# Altium schematic symbol library IPB011N04N G.SchLib: 1 symbol
Pins are listed as number, name and electrical type; pins without a type are passive.

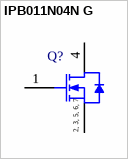
[diagram p0: symbol IPB011N04N G]

## IPB011N04N G
designator Q?
N-Channel OptiMOS 3 Power-Transistor, 40 V VDS, 180 A ID, -55 to 175 degC, PG-TO-263-7-2, Reel, Green; Manufacturer: Infineon; PartNumber: IPB011N04N G; Green: TRUE; ID (max): 180 A; IDpuls (max): 1260 A; Polarity: N; Ptot (max): 250 W; QG: 188 nC; RDS (on) (max): 1.1 mOhm; Rth: 0.6 K/W; RthJA (max): 62 K/W; VDS (max): 40 V; VGS(th) (max): 4 V; VGS(th) (min): 2 V; DatasheetVersion: Rev. 1.4; PackageVersion: Rev. 01, 11/2007; PackageReference: PG-TO-263-7-2; PackageDescription: 7-Pin Plastic (Green) Transistor Single Outline Package, 10.1 x 8.98 mm Body, 1.27 mm Pitch; Supplier 1: Digi-Key; Supplier Part Number 1: IPB011N04N G-ND; Supplier 2: Farnell; Supplier Part Number 2: 1775516; Supplier 3: Newark; Supplier Part Number 3: 60R2640; Supplier 4: Mouser; Supplier Part Number 4: 726-IPB011N04NG; Halogen-free: TRUE; Packing: Reel; RthJC (max): 0.6 K/W; Mounting Technology: Surface Mount; ComponentLink1Description: Manufacturer URL; ComponentLink1URL: http://www.infineon.com/; ComponentLink2Description: Datasheet; ComponentLink2URL: http://www.infineon.com/dgdl/IPB011N04N_rev1+4.pdf?folderId=db3a3043163797a6011643468e7505a4&fileId=db3a3043163797a601164373e07005f8; ComponentLink3Description: Package Specification; ComponentLink3URL: http://www.infineon.com/dgdl/BTS621L1_20030922.pdf?folderId=db3a30431400ef68011421b54e2e0564&fileId=db3a304333227b5e0133258247c72ecc&sId=db3a30433d68e984013d8539603e0d72
footprint INF-PG-TO-263-7-2_N (DPAK, 7-Leads, Body 10.1x8.98mm, Pitch 1.27mm, IPC Medium Density)
footprint INF-PG-TO-263-7-2_L (DPAK, 7-Leads, Body 10.1x8.98mm, Pitch 1.27mm, IPC High Density)
footprint INF-PG-TO-263-7-2_M (DPAK, 7-Leads, Body 10.1x8.98mm, Pitch 1.27mm, IPC Low Density)
pins: 1 GATE, 2 SOURCE, 3 SOURCE, 4 DRAIN, 5 SOURCE, 6 SOURCE, 7 SOURCE
text: 2, 3, 5, 6, 7